# EAGLE library part LT3952EFEPBF (library LED)
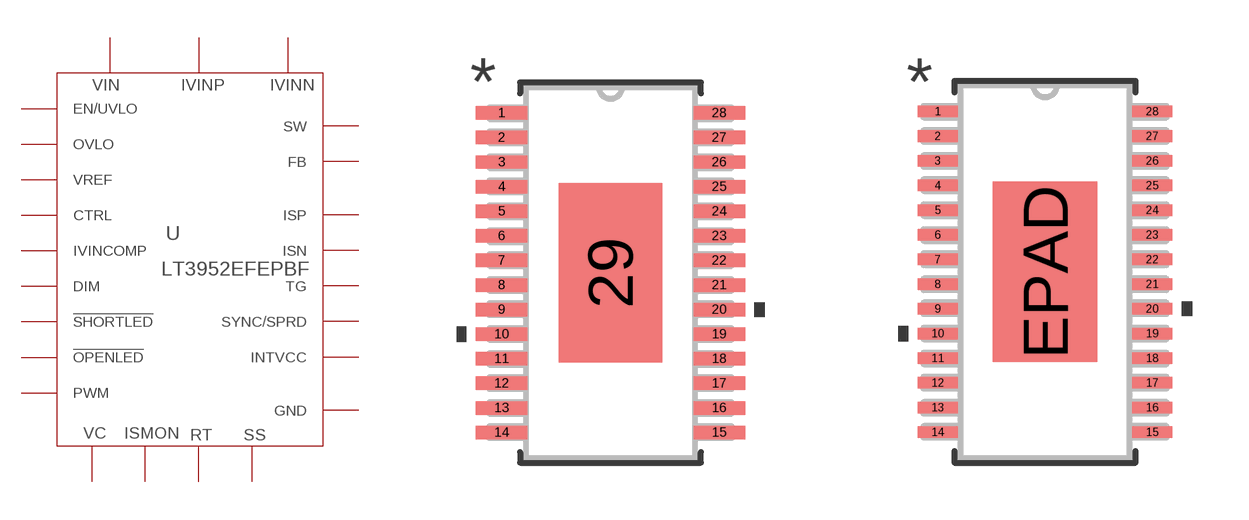
[diagram p1: symbol with the pads of TSSOP-28_FE/EB; footprints TSSOP-28_FE/EB, TSSOP-28_FE/EB-L]

Designator prefix U

## LT3952EFEPBF (MANUFACTURER_PART_NUMBER: LT3952EFE#PBF; VENDOR: Linear Technology)  [TSSOP-28_FE/EB]
1  GND  pwr
2  SW  pas
3  SW  pas
4  SW  pas
5  IVINN  in
6  IVINP  in
7  VIN  in
8  EN/UVLO  pas
9  OVLO  pas
10  INTVCC  out
11  SYNC/SPRD  pas
12  GND  pwr
13  VC  out
14  RT  pas
15  DIM  out
16  FB  out
17  CTRL  out
18  VREF  out
19  SS  pas
20  PWM  pas
21  !SHORTLED  pas
22  !OPENLED  pas
23  IVINCOMP  out
24  ISMON  out
25  TG  out
26  ISN  out
27  ISP  out
28  GND  pwr
29  GND  pwr

## LT3952EFEPBFTSSOP-28_FE/EB-L (MANUFACTURER_PART_NUMBER: LT3952EFE#PBF; VENDOR: Linear Technology)  [TSSOP-28_FE/EB-L]
1  GND  pwr
2  SW  pas
3  SW  pas
4  SW  pas
5  IVINN  in
6  IVINP  in
7  VIN  in
8  EN/UVLO  pas
9  OVLO  pas
10  INTVCC  out
11  SYNC/SPRD  pas
12  GND  pwr
13  VC  out
14  RT  pas
15  DIM  out
16  FB  out
17  CTRL  out
18  VREF  out
19  SS  pas
20  PWM  pas
21  !SHORTLED  pas
22  !OPENLED  pas
23  IVINCOMP  out
24  ISMON  out
25  TG  out
26  ISN  out
27  ISP  out
28  GND  pwr
EPAD  GND  pwr

## LT3952EFEPBFTSSOP-28_FE/EB-M (MANUFACTURER_PART_NUMBER: LT3952EFE#PBF; VENDOR: Linear Technology)  [TSSOP-28_FE/EB-M]
Pads as for TSSOP-28_FE/EB-L

## Footprint TSSOP-28_FE/EB (pad centres in mm)
smd 1.361 x 0.356: 1 -2.875,4.227; 2 -2.875,3.576; 3 -2.875,2.926; 4 -2.875,2.276; 5 -2.875,1.626; 6 -2.875,0.975; 7 -2.875,0.325; 8 -2.875,-0.325; 9 -2.875,-0.975; 10 -2.875,-1.626; 11 -2.875,-2.276; 12 -2.875,-2.926; 13 -2.875,-3.576; 14 -2.875,-4.227; 15 2.875,-4.227; 16 2.875,-3.576; 17 2.875,-2.926; 18 2.875,-2.276; 19 2.875,-1.626; 20 2.875,-0.975; 21 2.875,-0.325; 22 2.875,0.325; 23 2.875,0.975; 24 2.875,1.626; 25 2.875,2.276; 26 2.875,2.926; 27 2.875,3.576; 28 2.875,4.227
smd 2.743 x 4.75: 29 0,0

## Footprint TSSOP-28_FE/EB-L (pad centres in mm)
smd 1.057 x 0.305: 1 -2.824,4.227; 2 -2.824,3.576; 3 -2.824,2.926; 4 -2.824,2.276; 5 -2.824,1.626; 6 -2.824,0.975; 7 -2.824,0.325; 8 -2.824,-0.325; 9 -2.824,-0.975; 10 -2.824,-1.626; 11 -2.824,-2.276; 12 -2.824,-2.926; 13 -2.824,-3.576; 14 -2.824,-4.227; 15 2.824,-4.227; 16 2.824,-3.576; 17 2.824,-2.926; 18 2.824,-2.276; 19 2.824,-1.626; 20 2.824,-0.975; 21 2.824,-0.325; 22 2.824,0.325; 23 2.824,0.975; 24 2.824,1.626; 25 2.824,2.276; 26 2.824,2.926; 27 2.824,3.576; 28 2.824,4.227
smd 2.743 x 4.75: EPAD 0,0

## Footprint TSSOP-28_FE/EB-M (pad centres in mm)
smd 1.666 x 0.406: 1 -2.926,4.227; 2 -2.926,3.576; 3 -2.926,2.926; 4 -2.926,2.276; 5 -2.926,1.626; 6 -2.926,0.975; 7 -2.926,0.325; 8 -2.926,-0.325; 9 -2.926,-0.975; 10 -2.926,-1.626; 11 -2.926,-2.276; 12 -2.926,-2.926; 13 -2.926,-3.576; 14 -2.926,-4.227; 15 2.926,-4.227; 16 2.926,-3.576; 17 2.926,-2.926; 18 2.926,-2.276; 19 2.926,-1.626; 20 2.926,-0.975; 21 2.926,-0.325; 22 2.926,0.325; 23 2.926,0.975; 24 2.926,1.626; 25 2.926,2.276; 26 2.926,2.926; 27 2.926,3.576; 28 2.926,4.227
smd 2.743 x 4.75: EPAD 0,0